# Altium schematic symbol library SLM-107-01-G-S.SchLib: 1 symbol
Pins are listed as number, name and electrical type; pins without a type are passive.

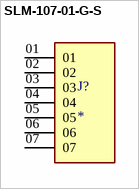
[diagram p0: symbol SLM-107-01-G-S]

## SLM-107-01-G-S
designator J?
MP: SLM-107-01-G-S; Package: None; Price: None; Value: *; Availability: Unavailable
footprint SAMTEC_SLM-107-01-G-S
pins: 01, 02, 03, 04, 05, 06, 07